# EAGLE library part TAS5630 (library Audio-Power-amplifier)
300W STEREO / 600W MONO PurePath ? HD ANALOG-INPUT POWER STAGE CW07/2009
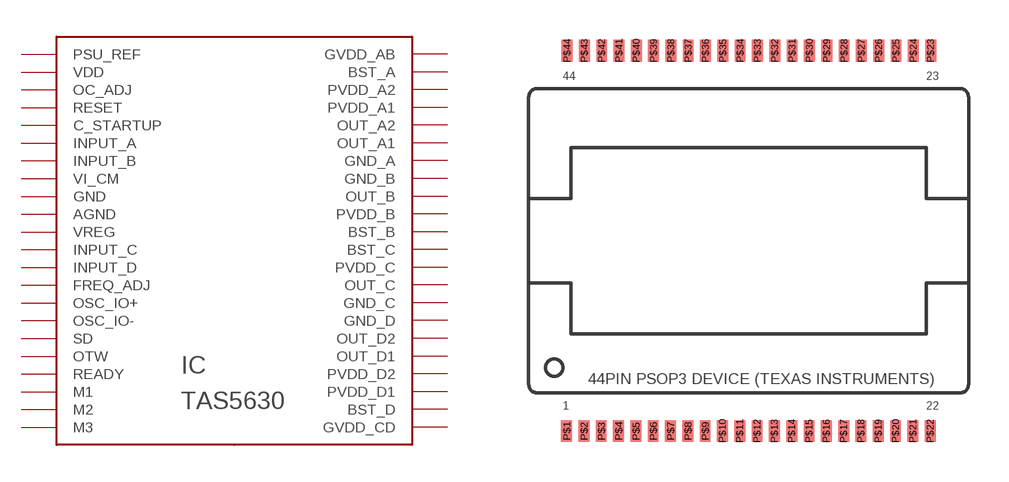
[diagram p54: symbol with the pads of DKD; footprint DKD]

Designator prefix IC

## TAS5630  [DKD]
P$1  PSU_REF
P$2  VDD
P$3  OC_ADJ
P$4  RESET
P$5  C_STARTUP
P$6  INPUT_A
P$7  INPUT_B
P$8  VI_CM
P$9  GND
P$10  AGND
P$11  VREG
P$12  INPUT_C
P$13  INPUT_D
P$14  FREQ_ADJ
P$15  OSC_IO+
P$16  OSC_IO-
P$17  SD
P$18  OTW
P$19  READY
P$20  M1
P$21  M2
P$22  M3
P$23  GVDD_CD
P$24  BST_D
P$25  PVDD_D1
P$26  PVDD_D2
P$27  OUT_D1
P$28  OUT_D2
P$29  GND_D
P$30  GND_C
P$31  OUT_C
P$32  PVDD_C
P$33  BST_C
P$34  BST_B
P$35  PVDD_B
P$36  OUT_B
P$37  GND_B
P$38  GND_A
P$39  OUT_A1
P$40  OUT_A2
P$41  PVDD_A1
P$42  PVDD_A2
P$43  BST_A
P$44  GVDD_AB

## Footprint DKD (pad centres in mm)
smd 0.406 x 0.813: P$1 -6.832,-7.15; P$2 -6.183,-7.15; P$3 -5.532,-7.15; P$4 -4.883,-7.15; P$5 -4.232,-7.15; P$6 -3.583,-7.15; P$7 -2.933,-7.15; P$8 -2.283,-7.15; P$9 -1.633,-7.15; P$10 -0.983,-7.15; P$11 -0.333,-7.15; P$12 0.318,-7.15; P$13 0.968,-7.15; P$14 1.617,-7.15; P$15 2.268,-7.15; P$16 2.917,-7.15; P$17 3.567,-7.15; P$18 4.218,-7.15; P$19 4.867,-7.15; P$20 5.518,-7.15; P$21 6.168,-7.15; P$22 6.817,-7.15; P$23 6.832,7.135; P$24 6.183,7.135; P$25 5.532,7.135; P$26 4.883,7.135; P$27 4.232,7.135; P$28 3.583,7.135; P$29 2.933,7.135; P$30 2.283,7.135; P$31 1.633,7.135; P$32 0.983,7.135; P$33 0.333,7.135; P$34 -0.318,7.135; P$35 -0.968,7.135; P$36 -1.617,7.135; P$37 -2.268,7.135; P$38 -2.917,7.135; P$39 -3.567,7.135; P$40 -4.218,7.135; P$41 -4.867,7.135; P$42 -5.518,7.135; P$43 -6.168,7.135; P$44 -6.817,7.135